# Altium schematic symbol library Schlib1.SchLib: 3 symbols
Pins are listed as number, name and electrical type; pins without a type are passive.

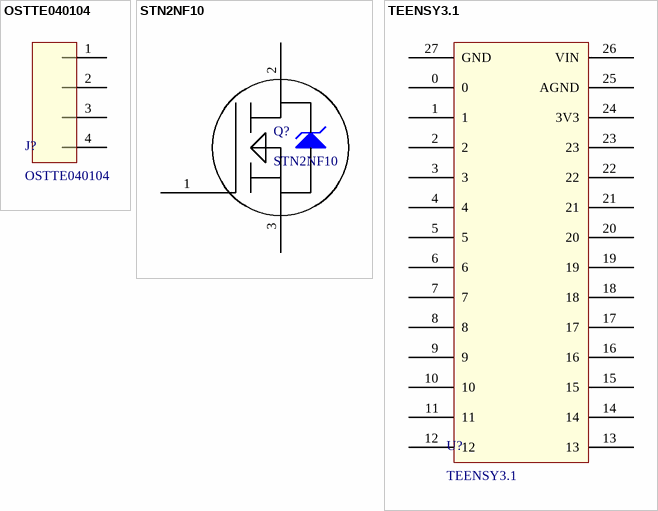
[diagram p0: symbols OSTTE040104 to TEENSY3.1]

## OSTTE040104
designator J?
TERMINAL BLOCK 3.5MM 4POS PCB
footprint OSTTE040104 (TERMINAL BLOCK 3.5MM 4POS PCB)
pins: 1, 2, 3, 4

## STN2NF10
designator Q?
MOSFET N-CH 100V 2.4A SOT-223
footprint SOT-223
pins: 1 G, 2 D, 3 S

## TEENSY3.1
designator U?
footprint TEENSY3.1
pins: 0, 1, 2, 3, 4, 5, 6, 7, 8, 9, 10, 11, 12, 13, 14, 15, 16, 17, 18, 19, 20, 21, 22, 23, 24 3V3, 25 AGND, 26 VIN, 27 GND